# EAGLE library part M2028B2B1W03 (library M2028B2B1W03)
Toggle Switches (ON)OFF(ON) .689 LRG BAT 12MM BSHNG PC Source: Datasheet <https://static6.arrow.com/aropdfconversion/494601e65ed1a004a7a84552e05ed912377b6827/103273346473971mtogglesbushing.pdf>
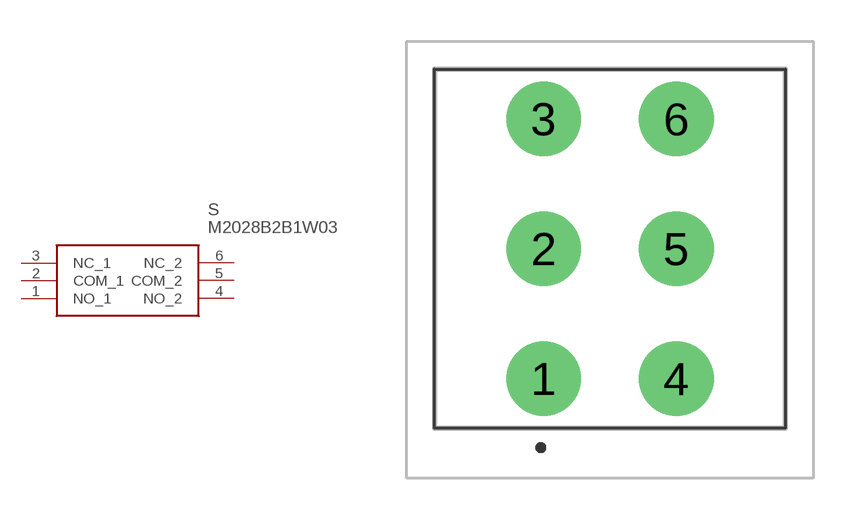
[diagram p0: symbol with the pads of M2028B2B1W03; footprint M2028B2B1W03]

Designator prefix S

## M2028B2B1W03 (Allied_Number: 70366611; Allied_Price-Stock: https://www.alliedelec.com/nkkswitches-m2028b2b1w03/70366611/; Description: Toggle Switches (ON)OFF(ON) .689 LRG BAT 12MM BSHNG PC; Height: 28.8mm; Manufacturer_Name: NKK Switches; Manufacturer_Part_Number: M2028B2B1W03; Mouser_Part_Number: 633-M2028B2B1W03; Mouser_Price-Stock: https://www.mouser.co.uk/ProductDetail/NKK-Switches/M2028B2B1W03?qs=VzCF7O64HHXs2PH9MXLaKg%3D%3D)  [M2028B2B1W03]
1  NO_1
2  COM_1
3  NC_1
4  NO_2
5  COM_2
6  NC_2

## Footprint M2028B2B1W03 (pad centres in mm)
M2028B2B1W03-1
drill 1.8 pad 2.7: 1 0,0; 2 0,4.7; 3 0,9.4; 4 4.8,0; 5 4.8,4.7; 6 4.8,9.4